# EAGLE library part LPC1768FET100 (library nxp_60)
LPC1768 100 MHz 32-bit ARM Cortex-M3 based microcontroller featuring a high level of integration and low power consumption. 512 kB Flash, 64 kB SRAM, USB Device/Host/OTG, 2 CAN, DAC, Ethernet MarcVl - Datasheet available on www.nxp.com Package added by AAL Eindhoven MV+ MK
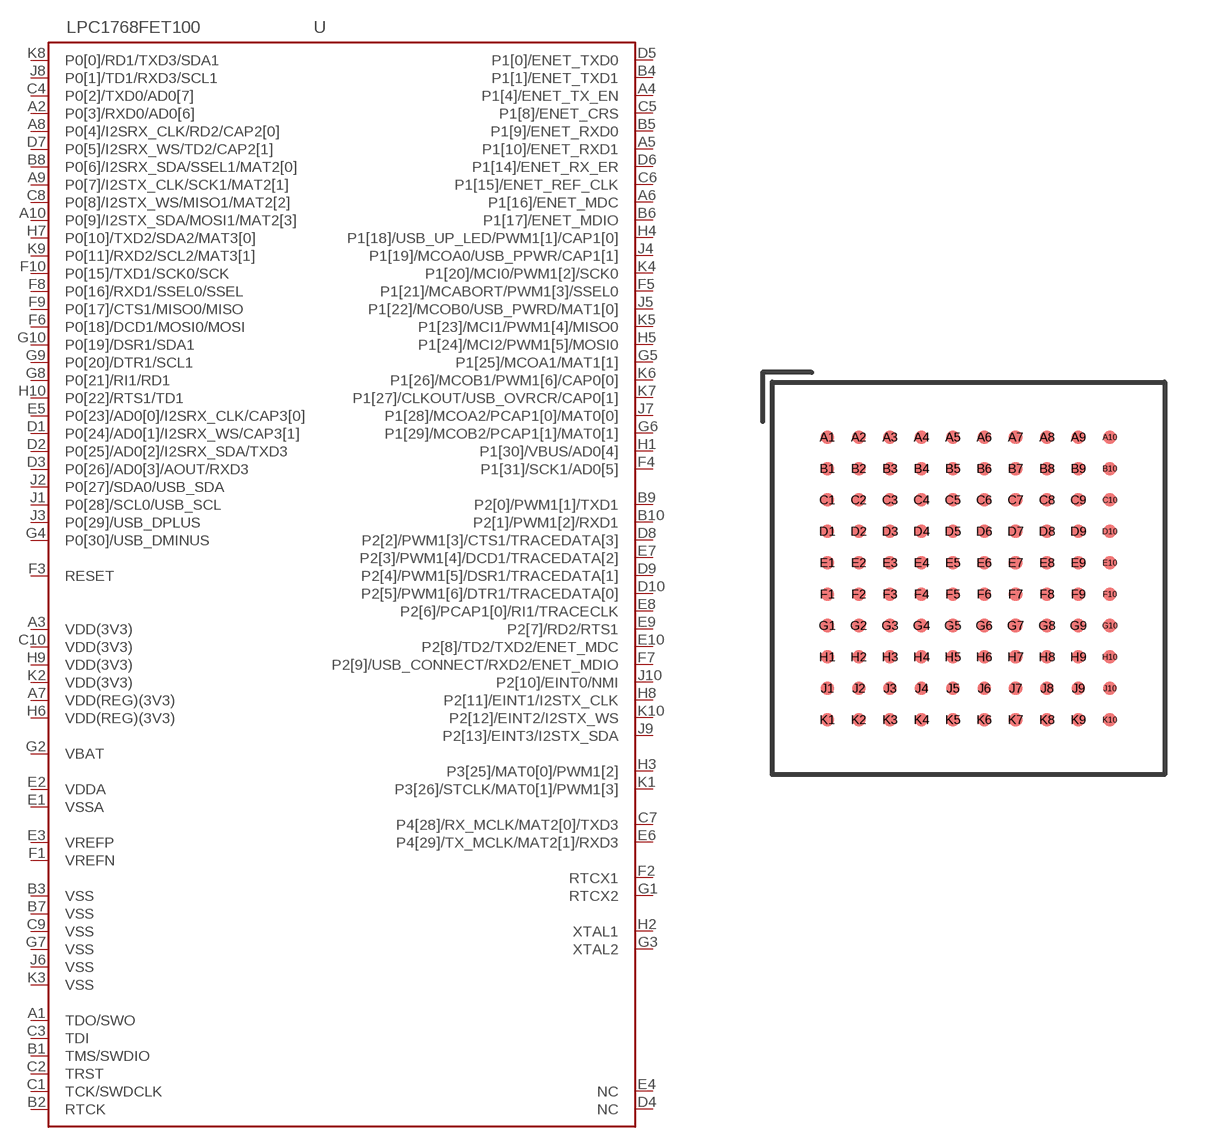
[diagram p26: symbol with the pads of SOT926-1; footprint SOT926-1]

Designator prefix U

## LPC1768FET100  [SOT926-1]
A1  TDO/SWO
A2  P0[3]/RXD0/AD0[6]
A3  VDD(3V3)
A4  P1[4]/ENET_TX_EN
A5  P1[10]/ENET_RXD1
A6  P1[16]/ENET_MDC
A7  VDD(REG)(3V3)
A8  P0[4]/I2SRX_CLK/RD2/CAP2[0]
A9  P0[7]/I2STX_CLK/SCK1/MAT2[1]
A10  P0[9]/I2STX_SDA/MOSI1/MAT2[3]
B1  TMS/SWDIO
B2  RTCK
B3  VSS
B4  P1[1]/ENET_TXD1
B5  P1[9]/ENET_RXD0
B6  P1[17]/ENET_MDIO
B7  VSS
B8  P0[6]/I2SRX_SDA/SSEL1/MAT2[0]
B9  P2[0]/PWM1[1]/TXD1
B10  P2[1]/PWM1[2]/RXD1
C1  TCK/SWDCLK
C2  TRST
C3  TDI
C4  P0[2]/TXD0/AD0[7]
C5  P1[8]/ENET_CRS
C6  P1[15]/ENET_REF_CLK
C7  P4[28]/RX_MCLK/MAT2[0]/TXD3
C8  P0[8]/I2STX_WS/MISO1/MAT2[2]
C9  VSS
C10  VDD(3V3)
D1  P0[24]/AD0[1]/I2SRX_WS/CAP3[1]
D2  P0[25]/AD0[2]/I2SRX_SDA/TXD3
D3  P0[26]/AD0[3]/AOUT/RXD3
D4  NC
D5  P1[0]/ENET_TXD0
D6  P1[14]/ENET_RX_ER
D7  P0[5]/I2SRX_WS/TD2/CAP2[1]
D8  P2[2]/PWM1[3]/CTS1/TRACEDATA[3]
D9  P2[4]/PWM1[5]/DSR1/TRACEDATA[1]
D10  P2[5]/PWM1[6]/DTR1/TRACEDATA[0]
E1  VSSA
E2  VDDA
E3  VREFP
E4  NC
E5  P0[23]/AD0[0]/I2SRX_CLK/CAP3[0]
E6  P4[29]/TX_MCLK/MAT2[1]/RXD3
E7  P2[3]/PWM1[4]/DCD1/TRACEDATA[2]
E8  P2[6]/PCAP1[0]/RI1/TRACECLK
E9  P2[7]/RD2/RTS1
E10  P2[8]/TD2/TXD2/ENET_MDC
F1  VREFN
F2  RTCX1
F3  RESET
F4  P1[31]/SCK1/AD0[5]
F5  P1[21]/MCABORT/PWM1[3]/SSEL0
F6  P0[18]/DCD1/MOSI0/MOSI
F7  P2[9]/USB_CONNECT/RXD2/ENET_MDIO
F8  P0[16]/RXD1/SSEL0/SSEL
F9  P0[17]/CTS1/MISO0/MISO
F10  P0[15]/TXD1/SCK0/SCK
G1  RTCX2
G2  VBAT
G3  XTAL2
G4  P0[30]/USB_DMINUS
G5  P1[25]/MCOA1/MAT1[1]
G6  P1[29]/MCOB2/PCAP1[1]/MAT0[1]
G7  VSS
G8  P0[21]/RI1/RD1
G9  P0[20]/DTR1/SCL1
G10  P0[19]/DSR1/SDA1
H1  P1[30]/VBUS/AD0[4]
H2  XTAL1
H3  P3[25]/MAT0[0]/PWM1[2]
H4  P1[18]/USB_UP_LED/PWM1[1]/CAP1[0]
H5  P1[24]/MCI2/PWM1[5]/MOSI0
H6  VDD(REG)(3V3)
H7  P0[10]/TXD2/SDA2/MAT3[0]
H8  P2[11]/EINT1/I2STX_CLK
H9  VDD(3V3)
H10  P0[22]/RTS1/TD1
J1  P0[28]/SCL0/USB_SCL
J2  P0[27]/SDA0/USB_SDA
J3  P0[29]/USB_DPLUS
J4  P1[19]/MCOA0/USB_PPWR/CAP1[1]
J5  P1[22]/MCOB0/USB_PWRD/MAT1[0]
J6  VSS
J7  P1[28]/MCOA2/PCAP1[0]/MAT0[0]
J8  P0[1]/TD1/RXD3/SCL1
J9  P2[13]/EINT3/I2STX_SDA
J10  P2[10]/EINT0/NMI
K1  P3[26]/STCLK/MAT0[1]/PWM1[3]
K2  VDD(3V3)
K3  VSS
K4  P1[20]/MCI0/PWM1[2]/SCK0
K5  P1[23]/MCI1/PWM1[4]/MISO0
K6  P1[26]/MCOB1/PWM1[6]/CAP0[0]
K7  P1[27]/CLKOUT/USB_OVRCR/CAP0[1]
K8  P0[0]/RD1/TXD3/SDA1
K9  P0[11]/RXD2/SCL2/MAT3[1]
K10  P2[12]/EINT2/I2STX_WS

## Footprint SOT926-1 (pad centres in mm)
SOT926-1 TFBGA100: plastic thin fine-pitch ball grid array package; 100 balls; body 9 x 9 x 0.7 mm JEDEC: -- IEC: --
smd 0.35 x 0.35: A1 -3.6,3.6; A2 -2.8,3.6; A3 -2,3.6; A4 -1.2,3.6; A5 -0.4,3.6; A6 0.4,3.6; A7 1.2,3.6; A8 2,3.6; A9 2.8,3.6; A10 3.6,3.6; B1 -3.6,2.8; B2 -2.8,2.8; B3 -2,2.8; B4 -1.2,2.8; B5 -0.4,2.8; B6 0.4,2.8; B7 1.2,2.8; B8 2,2.8; B9 2.8,2.8; B10 3.6,2.8; C1 -3.6,2; C2 -2.8,2; C3 -2,2; C4 -1.2,2; C5 -0.4,2; C6 0.4,2; C7 1.2,2; C8 2,2; C9 2.8,2; C10 3.6,2; D1 -3.6,1.2; D2 -2.8,1.2; D3 -2,1.2; D4 -1.2,1.2; D5 -0.4,1.2; D6 0.4,1.2; D7 1.2,1.2; D8 2,1.2; D9 2.8,1.2; D10 3.6,1.2; E1 -3.6,0.4; E2 -2.8,0.4; E3 -2,0.4; E4 -1.2,0.4; E5 -0.4,0.4; E6 0.4,0.4; E7 1.2,0.4; E8 2,0.4; E9 2.8,0.4; E10 3.6,0.4; F1 -3.6,-0.4; F2 -2.8,-0.4; F3 -2,-0.4; F4 -1.2,-0.4; F5 -0.4,-0.4; F6 0.4,-0.4; F7 1.2,-0.4; F8 2,-0.4; F9 2.8,-0.4; F10 3.6,-0.4; G1 -3.6,-1.2; G2 -2.8,-1.2; G3 -2,-1.2; G4 -1.2,-1.2; G5 -0.4,-1.2; G6 0.4,-1.2; G7 1.2,-1.2; G8 2,-1.2; G9 2.8,-1.2; G10 3.6,-1.2; H1 -3.6,-2; H2 -2.8,-2; H3 -2,-2; H4 -1.2,-2; H5 -0.4,-2; H6 0.4,-2; H7 1.2,-2; H8 2,-2; H9 2.8,-2; H10 3.6,-2; J1 -3.6,-2.8; J2 -2.8,-2.8; J3 -2,-2.8; J4 -1.2,-2.8; J5 -0.4,-2.8; J6 0.4,-2.8; J7 1.2,-2.8; J8 2,-2.8; J9 2.8,-2.8; J10 3.6,-2.8; K1 -3.6,-3.6; K2 -2.8,-3.6; K3 -2,-3.6; K4 -1.2,-3.6; K5 -0.4,-3.6; K6 0.4,-3.6; K7 1.2,-3.6; K8 2,-3.6; K9 2.8,-3.6; K10 3.6,-3.6